# Altium schematic symbol library DEMO板原理图封装.SchLib: 35 symbols
Pins are listed as number, name and electrical type; pins without a type are passive.

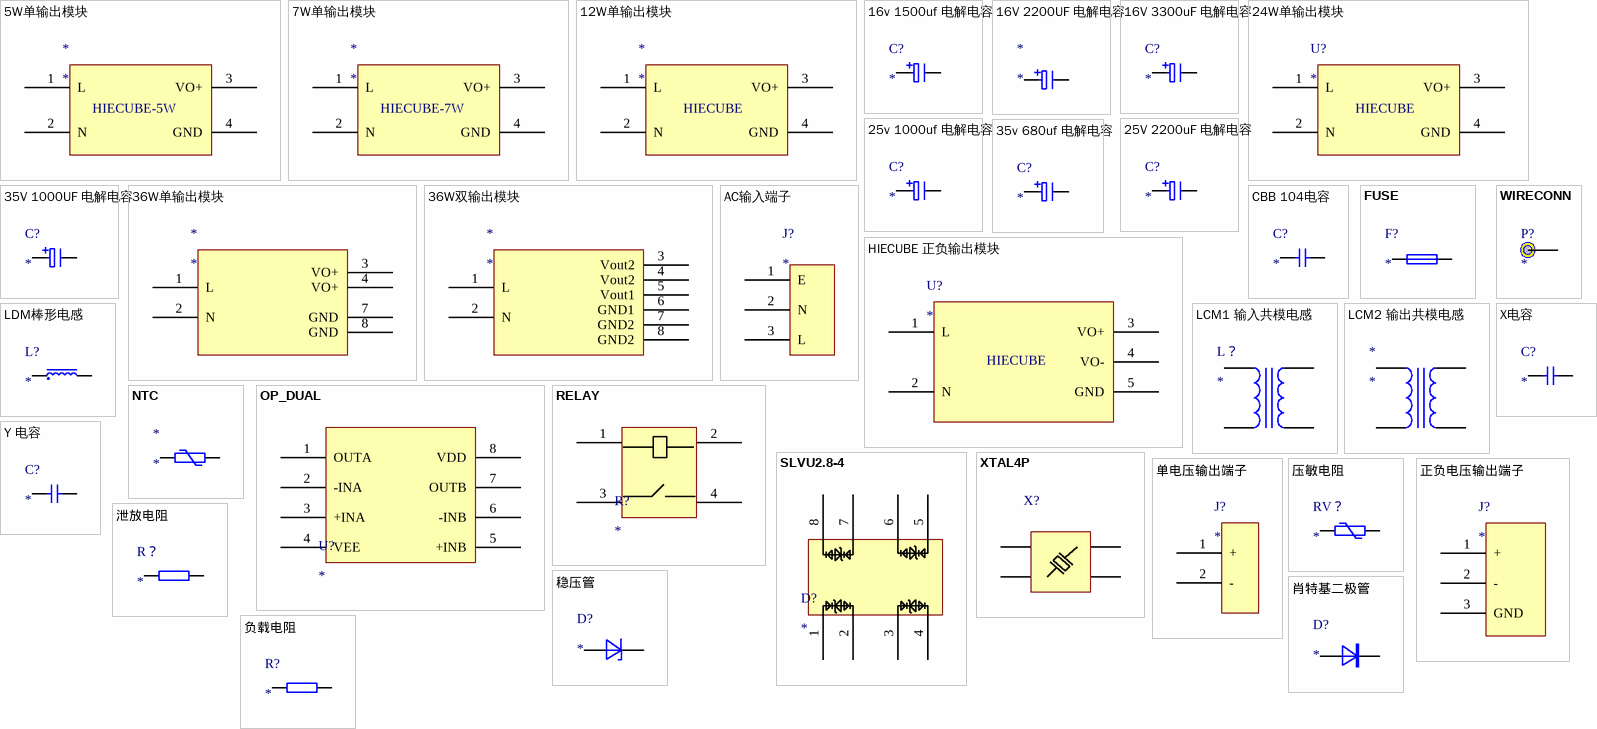
[diagram p0: symbols 5W单输出模块 to 负载电阻]

## 5W单输出模块
designator *
pins: 1 L, 2 N, 3 VO+, 4 GND
text: HIECUBE-5W

## 7W单输出模块
designator *
pins: 1 L, 2 N, 3 VO+, 4 GND
text: HIECUBE-7W

## 12W单输出模块
designator *
pins: 1 L, 2 N, 3 VO+, 4 GND
text: HIECUBE

## 16v 1500uf 电解电容
designator C?
pins: 1, 2

## 16V 2200UF 电解电容
designator *
pins: 1, 2

## 16V 3300uF 电解电容
designator C?
pins: 1, 2

## 24W单输出模块
designator U?
pins: 1 L, 2 N, 3 VO+, 4 GND
text: HIECUBE

## 25v 1000uf 电解电容
designator C?
pins: 1, 2

## 25V 2200uF 电解电容
designator C?
pins: 1, 2

## 35v 680uf 电解电容
designator C?
pins: 1, 2

## 35V 1000UF 电解电容
designator C?
pins: 1, 2

## 36W单输出模块
designator *
pins: 1 L, 2 N, 3 VO+, 4 VO+, 7 GND, 8 GND

## 36W双输出模块
designator *
pins: 1 L, 2 N, 3 Vout2, 4 Vout2, 5 Vout1, 6 GND1, 7 GND2, 8 GND2

## AC输入端子
designator J?
pins: 1 E, 2 N, 3 L

## CBB 104电容
designator C?
pins: 1, 2

## FUSE
designator F?
pins: 1, 2

## HIECUBE 正负输出模块
designator U?
pins: 1 L, 2 N, 3 VO+, 4 VO-, 5 GND
text: HIECUBE

## LCM1 输入共模电感
designator L？
pins: 1, 2, 3, 4

## LCM2 输出共模电感
designator *
pins: 1, 2, 3, 4

## LDM棒形电感
designator L?
pins: 1, 2

## NTC
designator *
pins: 1, 2

## OP_DUAL
designator U?
ComponentLink1Description: LM358-SR; ComponentLink1URL: https://item.szlcsc.com/94344.html
footprint SOIC-8_150mil
pins: 1 OUTA, 2 -INA, 3 +INA, 4 VEE, 5 +INB, 6 -INB, 7 OUTB, 8 VDD

## RELAY
designator R?
ComponentLink1Description: HF32F/012-HS; ComponentLink1URL: https://item.szlcsc.com/28304.html
footprint HF32F/012HS (RELAY)
pins: 1, 2, 3, 4

## SLVU2.8-4
designator D?
ComponentLink1Description: UFS08A2.8L04; ComponentLink1URL: https://item.szlcsc.com/79578.html; ComponentLink2Description: datasheet; ComponentLink2URL: https://www.semtech.com/uploads/documents/slvu2.8-4.pdf
footprint SOIC-8_150mil
pins: 1, 2, 3, 4, 5, 6, 7, 8

## WIRECONN
designator P?
接线端子
footprint WIRECONN
pins: 1

## XTAL4P
designator X?
ComponentLink1Description: 25MHZ; ComponentLink1URL: https://item.szlcsc.com/119128.html
footprint 3225_4P (晶振)
pins: 1, 2, 3, 4

## X电容
designator C?
pins: 1, 2

## Y 电容
designator C?
pins: 1, 2

## 单电压输出端子
designator J?
pins: 1 +, 2 -

## 压敏电阻
designator RV？
pins: 1, 2

## 正负电压输出端子
designator J?
pins: 1 +, 2 -, 3 GND

## 泄放电阻
designator R？
pins: 1, 2

## 稳压管
designator D?
pins: A, K

## 肖特基二极管
designator D?
pins: A, K

## 负载电阻
designator R?
pins: 1, 2